# Altium schematic symbol library ATMEGA328P-PU.SchLib: 1 symbol
Pins are listed as number, name and electrical type; pins without a type are passive.

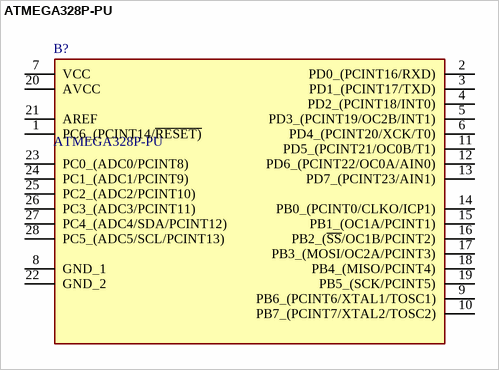
[diagram p0: symbol ATMEGA328P-PU]

## ATMEGA328P-PU
designator B?
MICROCHIP - ATMEGA328P-PU. - MICROCONTROLLER MCU, 8 BIT, ATMEGA, 20MHZ, DIP-28; Geometry.Height: 4.572mm; Mouser Part Number: 556-ATMEGA328P-PU; Mouser Price/Stock: https://www.mouser.co.uk/ProductDetail/Microchip-Technology/ATMEGA328P-PU?qs=K8BHR703ZXguOQv3sKbWcg%3D%3D; Manufacturer_Name: Microchip; Manufacturer_Part_Number: ATMEGA328P-PU; Datasheet Link: https://www.mouser.ca/datasheet/2/268/ATmega48A_PA_88A_PA_168A_PA_328_P_DS_DS40002061B-3050139.pdf
footprint DIP794W53P254L3467H457Q28N
pins: 1 PC6_(PCINT14/~{RESET)}, 2 PD0_(PCINT16/RXD), 3 PD1_(PCINT17/TXD), 4 PD2_(PCINT18/INT0), 5 PD3_(PCINT19/OC2B/INT1), 6 PD4_(PCINT20/XCK/T0), 7 VCC, 8 GND_1, 9 PB6_(PCINT6/XTAL1/TOSC1), 10 PB7_(PCINT7/XTAL2/TOSC2), 11 PD5_(PCINT21/OC0B/T1), 12 PD6_(PCINT22/OC0A/AIN0), 13 PD7_(PCINT23/AIN1), 14 PB0_(PCINT0/CLKO/ICP1), 15 PB1_(OC1A/PCINT1), 16 PB2_(~{SS}/OC1B/PCINT2), 17 PB3_(MOSI/OC2A/PCINT3), 18 PB4_(MISO/PCINT4), 19 PB5_(SCK/PCINT5), 20 AVCC, 21 AREF, 22 GND_2, 23 PC0_(ADC0/PCINT8), 24 PC1_(ADC1/PCINT9), 25 PC2_(ADC2/PCINT10), 26 PC3_(ADC3/PCINT11), 27 PC4_(ADC4/SDA/PCINT12), 28 PC5_(ADC5/SCL/PCINT13)